# Altium footprint library 532614007.PcbLib: 3 footprints
Each footprint in its own frame and in the unit in brackets; x right, y up, seen from the top. Pads: shape width x height; smd on the part's side, far side on the other; paste and mask are expansions set on the pad; w line width, h text height; cw(c..) or ccw(c..) is an arc to the next point about the centre after c.
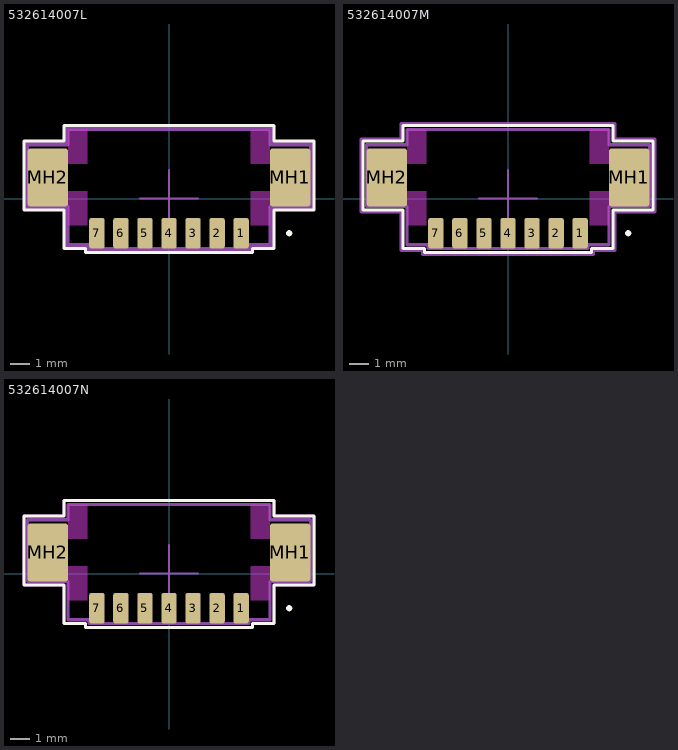
[diagram p0: the footprints below, top view; thin cyan lines are the x and y axes]

## 532614007L [mm] "Molex PicoBlade 7-Pin Right-Angle Connector with Gold Coating"
height 3.4
pads (9):
  rrect31% 0.8x1.6 smd: 1(3.75,-1.8) 2(2.5,-1.8) 3(1.25,-1.8) 4(0,-1.8) 5(-1.25,-1.8) 6(-2.5,-1.8) 7(-3.75,-1.8)
  rrect12% 2.1x3 smd: MH1(6.3,1.1) MH2(-6.3,1.1)
Top Layer keep-out:
  rectangle: -5.25,3.6 -4.25,1.8
  rectangle: 5.25,3.6 4.25,1.8
  rectangle: -5.25,-1.4 -4.25,0.4
  rectangle: 5.25,-1.4 4.25,0.4
Top Overlay:
  circle w0.16: c6.25,-1.8 r0.08
  lines w0.16: -7.55,-0.6 -5.45,-0.6 -5.45,-2.6 -4.35,-2.6 -4.35,-2.8 4.35,-2.8 4.35,-2.6 5.45,-2.6 5.45,-0.6 7.55,-0.6 7.55,3 5.45,3 5.45,3.8 -5.45,3.8 -5.45,3 -7.55,3 -7.55,-0.6
Top Component Center:
  lines w0.1: -1.5,0 1.5,0 ; 0,-1.5 0,1.5
Top Courtyard:
  lines w0.16: -7.45,-0.5 -5.35,-0.5 -5.35,-2.5 -4.25,-2.5 -4.25,-2.7 4.25,-2.7 4.25,-2.5 5.35,-2.5 5.35,-0.5 7.45,-0.5 7.45,2.9 5.35,2.9 5.35,3.7 -5.35,3.7 -5.35,2.9 -7.45,2.9 -7.45,-0.5
Top Assembly:
  lines w0.16: -7.35,-0.4 -5.25,-0.4 -5.25,-2.4 -4.15,-2.4 -4.15,-2.6 4.15,-2.6 4.15,-2.4 5.25,-2.4 5.25,-0.4 7.35,-0.4 7.35,2.8 5.25,2.8 5.25,3.6 -5.25,3.6 -5.25,2.8 -7.35,2.8 -7.35,-0.4
3D body "532614007L.STEP": height 3.4, standoff 0, extent -6.95,-2 6.95,3.2

## 532614007M [mm] "Molex PicoBlade 7-Pin Right-Angle Connector with Gold Coating"
height 3.4
pads (9):
  rrect31% 0.8x1.6 smd: 1(3.75,-1.8) 2(2.5,-1.8) 3(1.25,-1.8) 4(0,-1.8) 5(-1.25,-1.8) 6(-2.5,-1.8) 7(-3.75,-1.8)
  rrect12% 2.1x3 smd: MH1(6.3,1.1) MH2(-6.3,1.1)
Top Layer keep-out:
  rectangle: -5.25,3.6 -4.25,1.8
  rectangle: 5.25,3.6 4.25,1.8
  rectangle: -5.25,-1.4 -4.25,0.4
  rectangle: 5.25,-1.4 4.25,0.4
Top Overlay:
  circle w0.16: c6.25,-1.8 r0.08
  lines w0.16: -7.55,-0.6 -5.45,-0.6 -5.45,-2.6 -4.35,-2.6 -4.35,-2.8 4.35,-2.8 4.35,-2.6 5.45,-2.6 5.45,-0.6 7.55,-0.6 7.55,3 5.45,3 5.45,3.8 -5.45,3.8 -5.45,3 -7.55,3 -7.55,-0.6
Top Component Center:
  lines w0.1: -1.5,0 1.5,0 ; 0,-1.5 0,1.5
Top Courtyard:
  lines w0.16: -7.65,-0.7 -5.55,-0.7 -5.55,-2.7 -4.45,-2.7 -4.45,-2.9 4.45,-2.9 4.45,-2.7 5.55,-2.7 5.55,-0.7 7.65,-0.7 7.65,3.1 5.55,3.1 5.55,3.9 -5.55,3.9 -5.55,3.1 -7.65,3.1 -7.65,-0.7
Top Assembly:
  lines w0.16: -7.35,-0.4 -5.25,-0.4 -5.25,-2.4 -4.15,-2.4 -4.15,-2.6 4.15,-2.6 4.15,-2.4 5.25,-2.4 5.25,-0.4 7.35,-0.4 7.35,2.8 5.25,2.8 5.25,3.6 -5.25,3.6 -5.25,2.8 -7.35,2.8 -7.35,-0.4
3D body "532614007M.STEP": height 3.4, standoff 0, extent -6.95,-2 6.95,3.2

## 532614007N [mm] "Molex PicoBlade 7-Pin Right-Angle Connector with Gold Coating"
height 3.4
pads (9):
  rrect31% 0.8x1.6 smd: 1(3.75,-1.8) 2(2.5,-1.8) 3(1.25,-1.8) 4(0,-1.8) 5(-1.25,-1.8) 6(-2.5,-1.8) 7(-3.75,-1.8)
  rrect12% 2.1x3 smd: MH1(6.3,1.1) MH2(-6.3,1.1)
Top Layer keep-out:
  rectangle: -5.25,3.6 -4.25,1.8
  rectangle: 5.25,3.6 4.25,1.8
  rectangle: -5.25,-1.4 -4.25,0.4
  rectangle: 5.25,-1.4 4.25,0.4
Top Overlay:
  circle w0.16: c6.25,-1.8 r0.08
  lines w0.16: -7.55,-0.6 -5.45,-0.6 -5.45,-2.6 -4.35,-2.6 -4.35,-2.8 4.35,-2.8 4.35,-2.6 5.45,-2.6 5.45,-0.6 7.55,-0.6 7.55,3 5.45,3 5.45,3.8 -5.45,3.8 -5.45,3 -7.55,3 -7.55,-0.6
Top Component Center:
  lines w0.1: -1.5,0 1.5,0 ; 0,-1.5 0,1.5
Top Courtyard:
  lines w0.16: -7.55,-0.6 -5.45,-0.6 -5.45,-2.6 -4.35,-2.6 -4.35,-2.8 4.35,-2.8 4.35,-2.6 5.45,-2.6 5.45,-0.6 7.55,-0.6 7.55,3 5.45,3 5.45,3.8 -5.45,3.8 -5.45,3 -7.55,3 -7.55,-0.6
Top Assembly:
  lines w0.16: -7.35,-0.4 -5.25,-0.4 -5.25,-2.4 -4.15,-2.4 -4.15,-2.6 4.15,-2.6 4.15,-2.4 5.25,-2.4 5.25,-0.4 7.35,-0.4 7.35,2.8 5.25,2.8 5.25,3.6 -5.25,3.6 -5.25,2.8 -7.35,2.8 -7.35,-0.4
3D body "532614007N.STEP": height 3.4, standoff 0, extent -6.95,-2 6.95,3.2